# Altium footprint library XDAmpPCBLib.PcbLib: 19 footprints (part 2 of 2)
Each footprint in its own frame and in the unit in brackets; x right, y up, seen from the top. Pads: shape width x height; smd on the part's side, far side on the other; paste and mask are expansions set on the pad; w line width, h text height; cw(c..) or ccw(c..) is an arc to the next point about the centre after c.
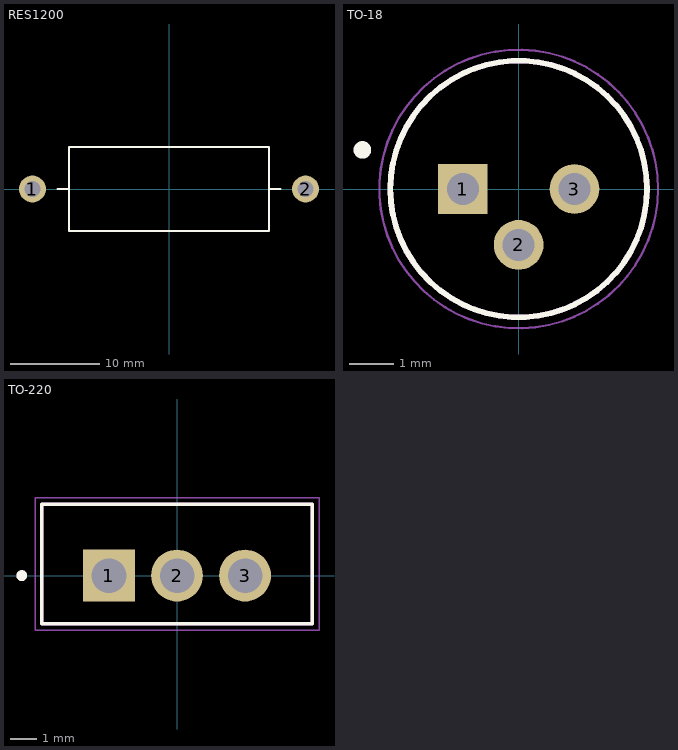
[diagram p1: the footprints below, top view; thin cyan lines are the x and y axes]

## RES1200 [mm]
pads (2):
  round 3 hole 1.75: 1(-15.24,0) 2(15.24,0)
Top Overlay:
  lines w0.203: -12.446,0 -11.176,0 ; 11.176,0 12.446,0 ; -11.176,-4.699 11.176,-4.699 11.176,4.699 -11.176,4.699 -11.176,-4.699
3D body "SW3dPS-PRWC7W.STEP": height 9.51, standoff -3.36, extent -15.621,-4.5 15.61,4.5

## TO-18 [mm]
pads (3):
  rect 1.13x1.13 hole 0.73: 1(-1.27,0)
  round 1.13 hole 0.73: 2(0,-1.27) 3(1.27,0)
Top Overlay:
  circle w0.127: c0,0 r2.92
  circle w0.2: c-3.556,0.889 r0.1
Mechanical 13:
  circle w0.127: c0,0 r2.92
Mechanical 15:
  circle w0.05: c0,0 r3.17
3D body "TO-18.STEP": height 5.33, standoff -19.05, extent -3.022,-2.787 2.788,3.022

## TO-220 [mm]
pads (3):
  rect 1.935x1.935 / inner round 1.935 / far side rect 1.935x1.935 hole 1.29: 1(-2.54,0)
  round 1.935 hole 1.29: 2(0,0) 3(2.54,0)
Top Overlay:
  circle w0.2: c-5.797,0 r0.1
  lines w0.127: -5.048,-1.793 -5.048,2.658 5.048,2.658 5.048,-1.793 -5.048,-1.793
Mechanical 13:
  circle w0.2: c-5.797,0 r0.1
  lines w0.127: -5.048,-1.793 -5.048,2.658 5.048,2.658 5.048,-1.793 -5.048,-1.793
Mechanical 15:
  lines w0.05: -5.298,-2.043 -5.298,2.907 5.298,2.907 5.298,-2.043 -5.298,-2.043
3D body "TIP110.STEP": height 19.84, standoff -10.19, extent -5.016,-1.778 5.08,2.667